# Altium footprint library DO-214AA.PcbLib: 1 footprints
Each footprint in its own frame and in the unit in brackets; x right, y up, seen from the top. Pads: shape width x height; smd on the part's side, far side on the other; paste and mask are expansions set on the pad; w line width, h text height; cw(c..) or ccw(c..) is an arc to the next point about the centre after c.
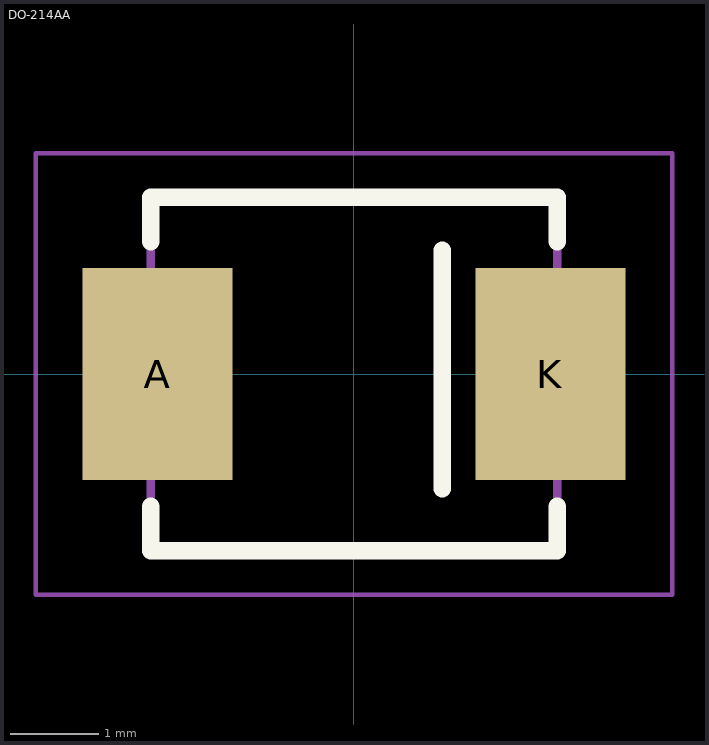
[diagram p0: the footprint, top view; thin cyan lines are the x and y axes]

## DO-214AA [mm]
pads (2):
  rect 1.7x2.4 smd: A(-2.222,0) K(2.223,0)
Top Overlay:
  lines w0.2: -2.3,-1.5 -2.3,-2 2.3,-2 2.3,-1.5 ; -2.3,1.5 -2.3,2 2.3,2 2.3,1.5 ; 1,-1.3 1,1.4
Mechanical 13:
  lines w0.1: -2.3,-2 -2.3,2 2.3,2 2.3,-2 -2.3,-2
Mechanical 15:
  lines w0.05: -3.6,-2.5 3.6,-2.5 3.6,2.5 -3.6,2.5 -3.6,-2.5
3D body: height 2.5, standoff 0, extent -2.35,-2.05 2.35,2.05